# Altium schematic symbol library 104642-1610.SchLib: 1 symbol
Pins are listed as number, name and electrical type; pins without a type are passive.

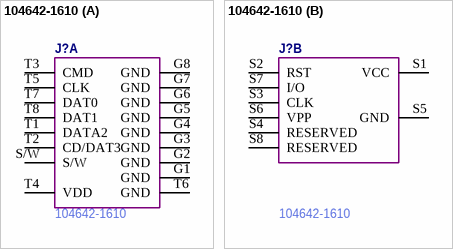
[diagram p0: symbol 104642-1610]

## 104642-1610
designator J?
Manufacturer Part Number: 104642-1610
part A pins: G1 GND, G2 GND, G3 GND, G4 GND, G5 GND, G6 GND, G7 GND, G8 GND, S/W, T1 DATA2, T2 CD/DAT3, T3 CMD, T4 VDD, T5 CLK, T6 GND, T7 DAT0, T8 DAT1
part B pins: S1 VCC, S2 RST, S3 CLK, S4 RESERVED, S5 GND, S6 VPP, S7 I/O, S8 RESERVED